# Altium schematic symbol library RT314024.SchLib: 1 symbol
Pins are listed as number, name and electrical type; pins without a type are passive.

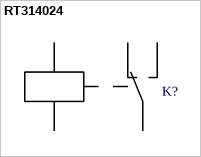
[diagram p0: symbol RT314024]

## RT314024
designator K?, comment Relay  (value not drawn)
footprint RT314024; pin to pad 11>111+112 12>121+122 14>141+142
pins: 11, 12, 14, A1, A2